# Altium schematic symbol library P40-GXXX-WH.Schlib: 1 symbol
Pins are listed as number, name and electrical type; pins without a type are passive.

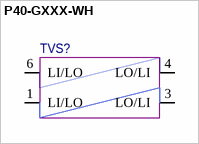
[diagram p0: symbol P40-GXXX-WH]

## P40-GXXX-WH
designator TVS?  (value not drawn)
Bidirectional High-Speed Overcurrent Protector.
pins: 1 LI/LO, 3 LO/LI, 4 LO/LI, 6 LI/LO